# EAGLE library part 653108124022 (library Wire-to-Board (rev18a))
WR-WTB 1.25mm SMT Male Vertical Shrouded Header, 8 Pins=>Code : Con_WTB_1.25_PCB_SMT_653108124022 <http://katalog.we-online.de/media/thumbs2/eican/thb_Con_WTB_1.25_PCB_SMT_6530xx124022_pf2.psd.jpg> Details see: http://katalog.we-online.de/en/em/WTB_1_25_SMT_MALE_VERTICAL_SHROUDED_HEADER_6531XX124022 Created 2014-06-06, Karrer Zheng 2014 (C) Würth Elektronik
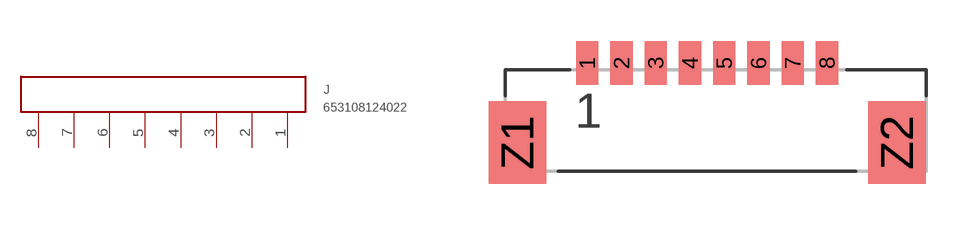
[diagram p55: symbol with the pads of 653108124022; footprint 653108124022]

Designator prefix J

## 653108124022  [653108124022]
1  8  pas
2  7  pas
3  6  pas
4  5  pas
5  4  pas
6  3  pas
7  2  pas
8  1  pas

## Footprint 653108124022 (pad centres in mm)
WR-WTB 1.25mm SMT Male Vertical Shrouded Header, 8 Pins
smd 0.81 x 1.6: 1 -4.375,0; 2 -3.125,0; 3 -1.875,0; 4 -0.625,0; 5 0.625,0; 6 1.875,0; 7 3.125,0; 8 4.375,0
smd 2.1 x 3: Z1 -6.925,-2.9; Z2 6.925,-2.9